# Altium footprint library STGAP1AS.PCBLIB: 1 footprints
Each footprint in its own frame and in the unit in brackets; x right, y up, seen from the top. Pads: shape width x height; smd on the part's side, far side on the other; paste and mask are expansions set on the pad; w line width, h text height; cw(c..) or ccw(c..) is an arc to the next point about the centre after c.
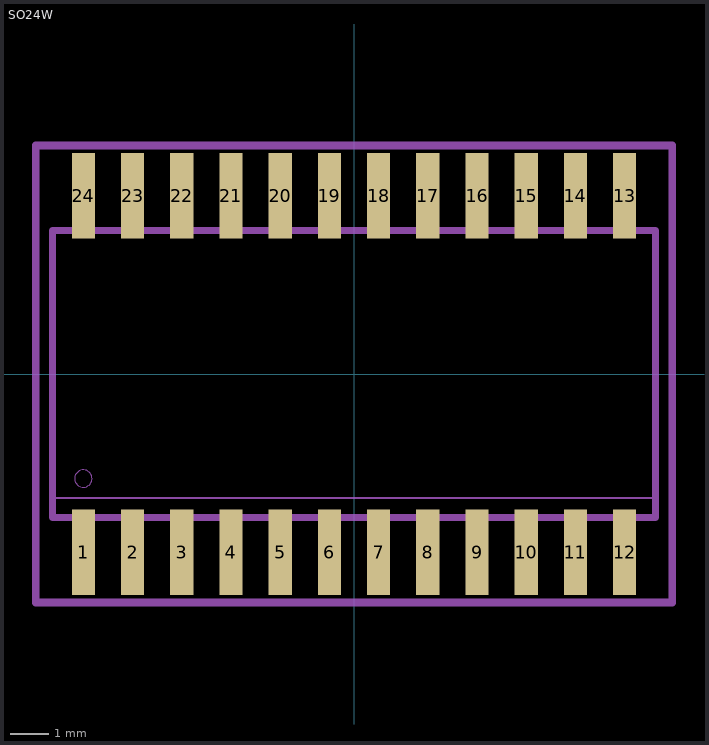
[diagram p0: the footprint, top view; thin cyan lines are the x and y axes]

## SO24W [mil]
pads (24):
  rect 23.62x86.61 smd: 1(-275,-181.1) 2(-225,-181.1) 3(-175,-181.1) 4(-125,-181.1) 5(-75,-181.1) 6(-25,-181.1) 7(25,-181.1) 8(75,-181.1) 9(125,-181.1) 10(175,-181.1) 11(225,-181.1) 12(275,-181.1) 13(275,181.1) 14(225,181.1) 15(175,181.1) 16(125,181.1) 17(75,181.1) 18(25,181.1) 19(-25,181.1) 20(-75,181.1) 21(-125,181.1) 22(-175,181.1) 23(-225,181.1) 24(-275,181.1)
Mechanical 8:
  region: -284.65,-209.45 -284.65,-149.61 -265.35,-149.61 -265.35,-209.45
  region: -234.65,-209.45 -234.65,-149.61 -215.35,-149.61 -215.35,-209.45
  region: -184.65,-209.45 -184.65,-149.61 -165.35,-149.61 -165.35,-209.45
  region: -134.65,-209.45 -134.65,-149.61 -115.35,-149.61 -115.35,-209.45
  region: -84.65,-209.45 -84.65,-149.61 -65.35,-149.61 -65.35,-209.45
  region: -34.65,-209.45 -34.65,-149.61 -15.35,-149.61 -15.35,-209.45
  region: 15.35,-209.45 15.35,-149.61 34.65,-149.61 34.65,-209.45
  region: 65.35,-209.45 65.35,-149.61 84.65,-149.61 84.65,-209.45
  region: 115.35,-209.45 115.35,-149.61 134.65,-149.61 134.65,-209.45
  region: 165.35,-209.45 165.35,-149.61 184.65,-149.61 184.65,-209.45
  region: 215.35,-209.45 215.35,-149.61 234.65,-149.61 234.65,-209.45
  region: 265.35,-209.45 265.35,-149.61 284.65,-149.61 284.65,-209.45
  region: 265.35,149.61 265.35,209.45 284.65,209.45 284.65,149.61
  region: 215.35,149.61 215.35,209.45 234.65,209.45 234.65,149.61
  region: 165.35,149.61 165.35,209.45 184.65,209.45 184.65,149.61
  region: 115.35,149.61 115.35,209.45 134.65,209.45 134.65,149.61
  region: 65.35,149.61 65.35,209.45 84.65,209.45 84.65,149.61
  region: 15.35,149.61 15.35,209.45 34.65,209.45 34.65,149.61
  region: -34.65,149.61 -34.65,209.45 -15.35,209.45 -15.35,149.61
  region: -84.65,149.61 -84.65,209.45 -65.35,209.45 -65.35,149.61
  region: -134.65,149.61 -134.65,209.45 -115.35,209.45 -115.35,149.61
  region: -184.65,149.61 -184.65,209.45 -165.35,209.45 -165.35,149.61
  region: -234.65,149.61 -234.65,209.45 -215.35,209.45 -215.35,149.61
  region: -284.65,149.61 -284.65,209.45 -265.35,209.45 -265.35,149.61
  lines w2: -306.3,-125.98 306.3,-125.98
  lines w7: -306.3,-145.67 306.3,-145.67 ; -306.3,145.67 306.3,145.67
Mechanical 22:
  circle w0: c-275,-106.25 r8.84
  lines w7: -306.3,-145.67 -306.3,145.67 ; 306.3,-145.67 306.3,145.67
Mechanical 30:
  lines w7.87: -323.33,-232.28 323.33,-232.28 323.33,232.28 -323.33,232.28 -323.33,-232.28